# EAGLE library part TPS6226* (library ELL-i-PowerIC)
TI 600 mA step-down converter The TPS6226x devices are synchronous step-down dc-dc converters. They provide up to 600 mA of output current. Datasheet <http://www.ti.com/lit/ds/symlink/tps62260-q1.pdf>
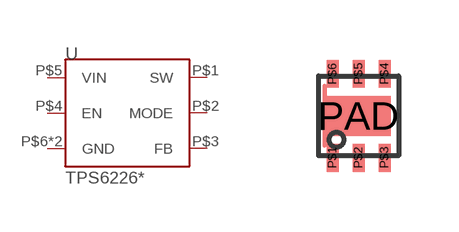
[diagram p3: symbol with the pads of QFN6-POWERPAD; footprint QFN6-POWERPAD]

Designator prefix U

## TPS62260IDRVRQ1, TPS62260TDRVRQ1, TPS62261TDRVRQ1, TPS62262TDRVRQ1, TPS62263TDRVRQ1  [QFN6-POWERPAD]
P$1  SW
P$2  MODE
P$3  FB
P$4  EN
P$5  VIN
P$6  GND
PAD  GND

## Footprint QFN6-POWERPAD (pad centres in mm)
6 pads Quad Flat Pack No-lead (QFN) aka Small Outline No-lead (SON) with powerpad Drawn according to TPS6226x datasheet
smd 0.3 x 0.7: P$1 -0.65,-1.05; P$2 0,-1.05; P$3 0.65,-1.05; P$4 0.65,1.05; P$5 0,1.05; P$6 -0.65,1.05
smd 1.6 x 1: PAD 0,0